# Altium schematic symbol library LED RGB.SchLib: 1 symbol
Pins are listed as number, name and electrical type; pins without a type are passive.

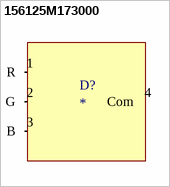
[diagram p0: symbol 156125M173000]

## 156125M173000
designator D?
LED RGB 156125M173000; Manufacturer: Wurth Elektronik; Reference: 156125M173000
pins: 1 R, 2 G, 3 B, 4 Com